# Altium footprint library VTSLIb.PcbLib: 2 footprints
Each footprint in its own frame and in the unit in brackets; x right, y up, seen from the top. Pads: shape width x height; smd on the part's side, far side on the other; paste and mask are expansions set on the pad; w line width, h text height; cw(c..) or ccw(c..) is an arc to the next point about the centre after c.
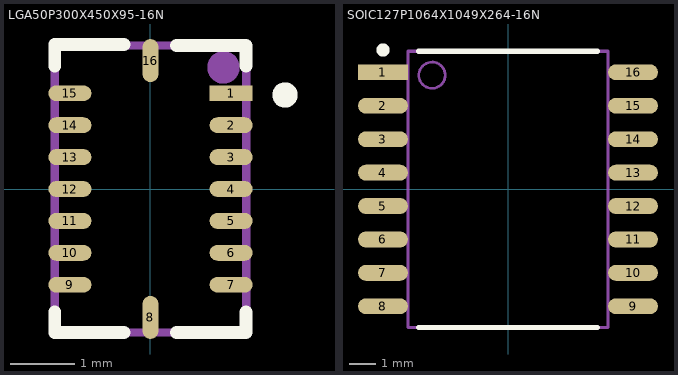
[diagram p0: the footprints below, top view; thin cyan lines are the x and y axes]

## LGA50P300X450X95-16N [mm] "IC ACCEL/GYRO I2C/SPI 16LGA"
height 0.95
pads (16):
  rect 0.675x0.25 smd: 1(1.263,1.5)
  oval 0.675x0.25 smd: 2(1.263,1) 3(1.263,0.5) 4(1.263,0) 5(1.263,-0.5) 6(1.263,-1) 7(1.263,-1.5) 9(-1.262,-1.5) 10(-1.262,-1) 11(-1.262,-0.5) 12(-1.262,0) 13(-1.262,0.5) 14(-1.262,1) 15(-1.262,1.5)
  oval 0.25x0.675 smd: 8(0,-2.013) 16(0,2.013)
Top Overlay:
  circle w0.254: c2.108,1.473 r0.072
  lines w0.203: -1.5,-1.924 -1.5,-2.25 -0.417,-2.25 ; -1.5,1.924 -1.5,2.261 -0.417,2.261 ; 0.405,-2.25 1.5,-2.25 1.5,-1.924 ; 0.405,2.25 1.5,2.25 ; 1.499,1.924 1.499,2.235
Outline:
  text ".Designator" at 0,0 h1.52
Courtyard Top:
  circle w0.254: c1.143,1.905 r0.127
  lines w0.127: -1.5,-2.25 1.5,-2.25 1.5,2.25 -1.5,2.25 -1.5,-2.25
3D body: height 0.95, standoff 0, extent -1.524,-2.25 1.5,2.286

## SOIC127P1064X1049X264-16N [mm] "SOIC, 16-Leads, Body 10.29x7.49mm, Pitch 1.27mm, IPC Medium Density"
height 2.64
pads (16):
  rect 1.9x0.6 smd: 1(-4.75,4.445)
  oval 1.9x0.6 smd: 2(-4.75,3.175) 3(-4.75,1.905) 4(-4.75,0.635) 5(-4.75,-0.635) 6(-4.75,-1.905) 7(-4.75,-3.175) 8(-4.75,-4.445) 9(4.75,-4.445) 10(4.75,-3.175) 11(4.75,-1.905) 12(4.75,-0.635) 13(4.75,0.635) 14(4.75,1.905) 15(4.75,3.175) 16(4.75,4.445)
Top Overlay:
  circle w0.25: c-4.75,5.295 r0.125
  lines w0.203: -3.4,-5.25 3.4,-5.25 ; -3.4,5.25 3.4,5.25
Outline:
  text ".Designator" at 0,0 h1.52
Courtyard Top:
  circle w0.1: c-2.887,4.336 r0.5
  lines w0.127: -3.8,-5.25 -3.8,5.25 3.8,5.25 3.8,-5.25 -3.8,-5.25
3D body: height 2.64, standoff 0, extent -5.162,-5.25 5.162,5.25